# Altium schematic symbol library Custom Parts.SchLib: 12 symbols
Pins are listed as number, name and electrical type; pins without a type are passive.

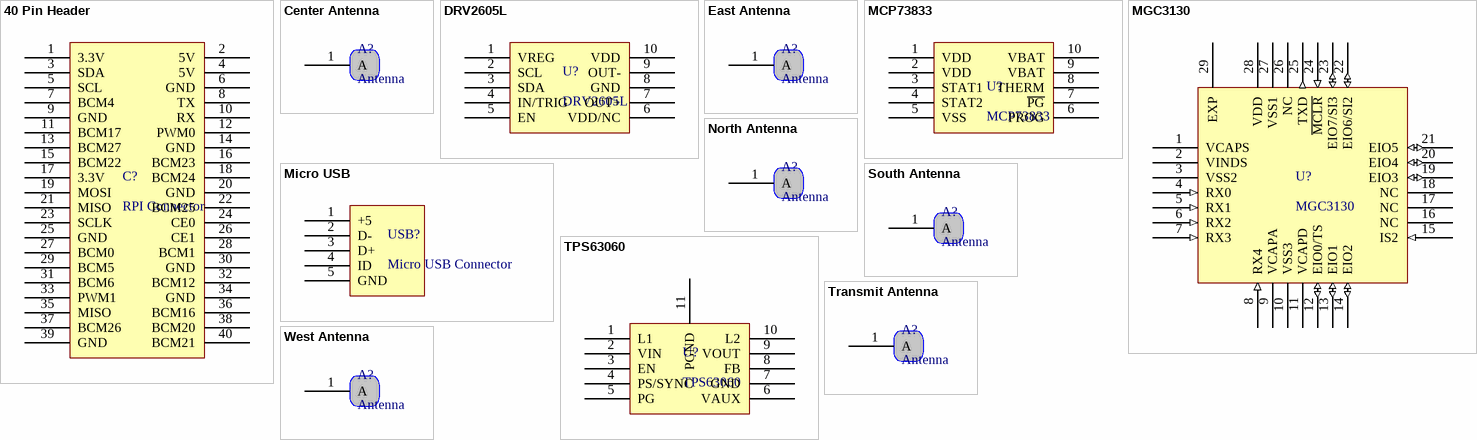
[diagram p0: symbols 40 Pin Header to West Antenna]

## 40 Pin Header
designator C?, comment RPI Connector
pins: 1 3.3V, 2 5V, 3 SDA, 4 5V, 5 SCL, 6 GND, 7 BCM4, 8 TX, 9 GND, 10 RX, 11 BCM17, 12 PWM0, 13 BCM27, 14 GND, 15 BCM22, 16 BCM23, 17 3.3V, 18 BCM24, 19 MOSI, 20 GND, 21 MISO, 22 BCM25, 23 SCLK, 24 CE0, 25 GND, 26 CE1, 27 BCM0, 28 BCM1, 29 BCM5, 30 GND, 31 BCM6, 32 BCM12, 33 PWM1, 34 GND, 35 MISO, 36 BCM16, 37 BCM26, 38 BCM20, 39 GND, 40 BCM21

## Center Antenna
designator A?, comment Antenna
pins: 1 A

## DRV2605L
designator U?
footprint DRV2605L
pins: 1 VREG, 2 SCL, 3 SDA, 4 IN/TRIG, 5 EN, 6 VDD/NC, 7 OUT+, 8 GND, 9 OUT-, 10 VDD

## East Antenna
designator A?, comment Antenna
footprint Vertical Electrode
pins: 1 A

## MCP73833
designator U?
footprint TSSOP50P490X110-10N (TSSOP, 10-Leads, Body 3.00x3.00mm, Pitch 0.50mm, IPC Medium Density)
pins: 1 VDD, 2 VDD, 3 STAT1, 4 STAT2, 5 VSS, 6 PROG, 7 ~{PG}, 8 THERM, 9 VBAT, 10 VBAT

## MGC3130
designator U?
Gesture Recognition IC
footprint QFN28
pins: 1 VCAPS (power), 2 VINDS (power), 3 VSS2 (power), 4 RX0 (in), 5 RX1 (in), 6 RX2 (in), 7 RX3 (in), 8 RX4 (in), 9 VCAPA (power), 10 VSS3 (power), 11 VCAPD (power), 12 EIO0/TS (io), 13 EIO1 (io), 14 EIO2 (io), 15 IS2 (in), 16 NC, 17 NC, 18 NC, 19 EIO3 (io), 20 EIO4 (io), 21 EIO5 (io), 22 EIO6/SI2 (io), 23 EIO7/SI3 (io), 24 ~{MCLR} (in), 25 TXD (out), 26 NC, 27 VSS1 (power), 28 VDD (power), 29 EXP (power)

## Micro USB
designator USB?, comment Micro USB Connector
pins: 1 +5, 2 D-, 3 D+, 4 ID, 5 GND

## North Antenna
designator A?, comment Antenna
footprint Horizontal Electrode
pins: 1 A

## South Antenna
designator A?, comment Antenna
footprint Model Name (Footprint not found)
footprint Horizontal Electrode
pins: 1 A

## TPS63060
designator U?
footprint S-PSWON-N10
pins: 1 L1, 2 VIN, 3 EN, 4 PS/SYNC, 5 PG, 6 VAUX, 7 GND, 8 FB, 9 VOUT, 10 L2, 11 PGND

## Transmit Antenna
designator A?, comment Antenna
pins: 1 A

## West Antenna
designator A?, comment Antenna
footprint Vertical Electrode
pins: 1 A